# EAGLE library part IR2104 (library 04_IC)
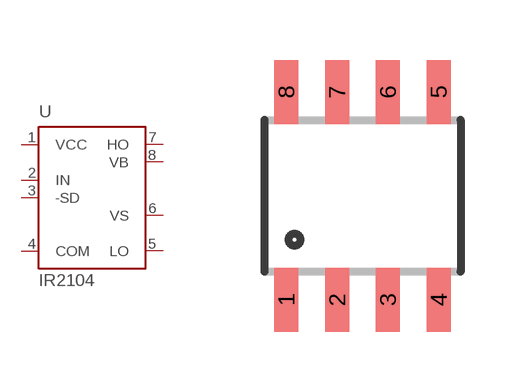
[diagram p15: symbol with the pads of SOIC8; footprint SOIC8]

Designator prefix -

## IR2104  [SOIC8]
1  VCC  pwr
2  IN  in
3  -SD  in
4  COM  pwr
5  LO  out
6  VS  in
7  HO  out
8  VB  pas

## Footprint SOIC8 (pad centres in mm)
smd 0.6 x 1.6: 1 -1.905,-2.6; 2 -0.635,-2.6; 3 0.635,-2.6; 4 1.905,-2.6; 5 1.905,2.6; 6 0.635,2.6; 7 -0.635,2.6; 8 -1.905,2.6